# EAGLE library part 6130061? (library wurth-pin-socket-headers)
(6) 2.54mm Pin Header Description MATERIAL INSULATOR: PBT FLAMABILITY RATING: UL94-V0 COLOR: BLACK CONTACT MATERIAL: COPPER ALLOY CONTACT TYPE: STAMPED CONTACT PLATING: GOLD QUALITY CLASS: 3 AS PER CECC 75 301-802 PITCH: 2.54MM ENVIRONMENTAL OPERATING TEMPERATURE: -40 UP TO 125°C COMPLIANCE: LEAD FREE AND ROHS ELECTRICAL CURRENT RATING: 3A WORKING VOLTAGE: 250V AC INSULATOR RESISTANCE: >1000 MOHM DIELECTRIC WITHSTANDING VOLTAGE: 500V AC/MN CONTACT RESISTANCE: 20 mOHM MAX DIMENSION B = 2.54 x NB POSITIONS How to order Type Header/Socket Number of Positions Variation 613 = 2.54mm Pitch from 1 to 40 1121 = Pin Header Straigh Post 1021 = Pin Header Right Angle 1821 = Socket Header Straigh Post 43121 = Socket Header Right Angle Ref: Datasheet <http://katalog.we-online.de/em/datasheet/6130xx11121.pdf> , Datasheet <http://katalog.we-online.de/em/datasheet/6130xx11021.pdf> , Datasheet <http://katalog.we-online.de/em/datasheet/6130xx11821.pdf> , Datasheet <http://katalog.we-online.de/em/datasheet/6130xx143121.pdf>
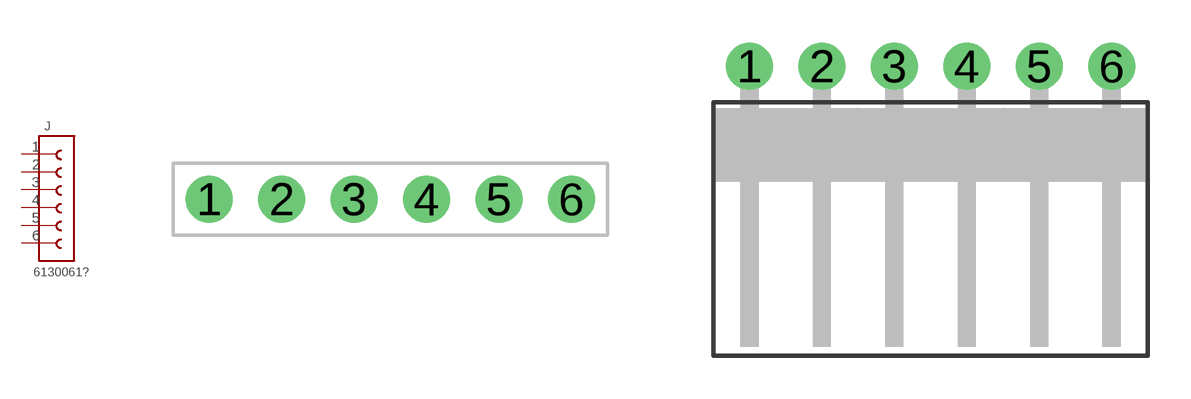
[diagram p0: symbol with the pads of PHSP254P1524X254X1154-6S; footprints PHSP254P1524X254X1154-6S, PHRA254P1524X1004X554-6S]

Designator prefix J

## 61300611121 (AVRG-PRICE: 0.41; DATASHEET: http://www.mouser.com/ds/2/445/6130xx11121-48870.pdf; DESCRIPTION: pin header straight post 2.54"; EAGLEUP: PHSP254P1524X254X1154-6S; MANUFACTURER: WURTH; MOUSER: 710-61300611121; OCTOPART-LINK: http://octopart.com/61300611121-w%C3%BCrth+elektronik+midcom-20084590)  [PHSP254P1524X254X1154-6S]
1  1  pas
2  2  pas
3  3  pas
4  4  pas
5  5  pas
6  6  pas

## 61300611021  [PHRA254P1524X1004X554-6S]
Pads as for PHSP254P1524X254X1154-6S

## 613006143121  [SHRA254P1574X1000X250-6S]
Pads as for PHSP254P1524X254X1154-6S

## 61300611821  [SHSP254P1574X250X850-6S]
Pads as for PHSP254P1524X254X1154-6S

## Footprint PHSP254P1524X254X1154-6S (pad centres in mm)
6 Pin Header Straight Post 2.54Pitch 15.24mm L x 2.54mm W x 11.54mm H ----------------------------------------------
drill 1.1: 1 0,0; 2 2.54,0; 3 5.08,0; 4 7.62,0; 5 10.16,0; 6 12.7,0

## Footprint PHRA254P1524X1004X554-6S (pad centres in mm)
6 Pin Header Right Angle 2.54Pitch 15.24mm L x 10.04mm W x 5.54mm H ----------------------------------------------
drill 1.1: 1 0,0; 2 2.54,0; 3 5.08,0; 4 7.62,0; 5 10.16,0; 6 12.7,0

## Footprint SHRA254P1574X1000X250-6S (pad centres in mm)
6 Socket Header Right Angle 2.54Pitch 15.74mm L x 10.0mm W x 2.5mm H ----------------------------------------------
drill 1.02: 1 0,0; 2 2.54,0; 3 5.08,0; 4 7.62,0; 5 10.16,0; 6 12.7,0

## Footprint SHSP254P1574X250X850-6S (pad centres in mm)
6 Socket Header Straight Post 2.54Pitch 15.74mm L x 2.5mm W x 8.5mm H ----------------------------------------------
drill 1.02: 1 0,0; 2 2.54,0; 3 5.08,0; 4 7.62,0; 5 10.16,0; 6 12.7,0